# Altium schematic symbol library 61304011121-2.SchLib: 1 symbol
Pins are listed as number, name and electrical type; pins without a type are passive.

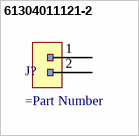
[diagram p0: symbol 61304011121-2]

## 61304011121-2
designator J?
=Desciption
pins: 1, 2